# Altium footprint library SOD-323.PcbLib: 1 footprints
Each footprint in its own frame and in the unit in brackets; x right, y up, seen from the top. Pads: shape width x height; smd on the part's side, far side on the other; paste and mask are expansions set on the pad; w line width, h text height; cw(c..) or ccw(c..) is an arc to the next point about the centre after c.
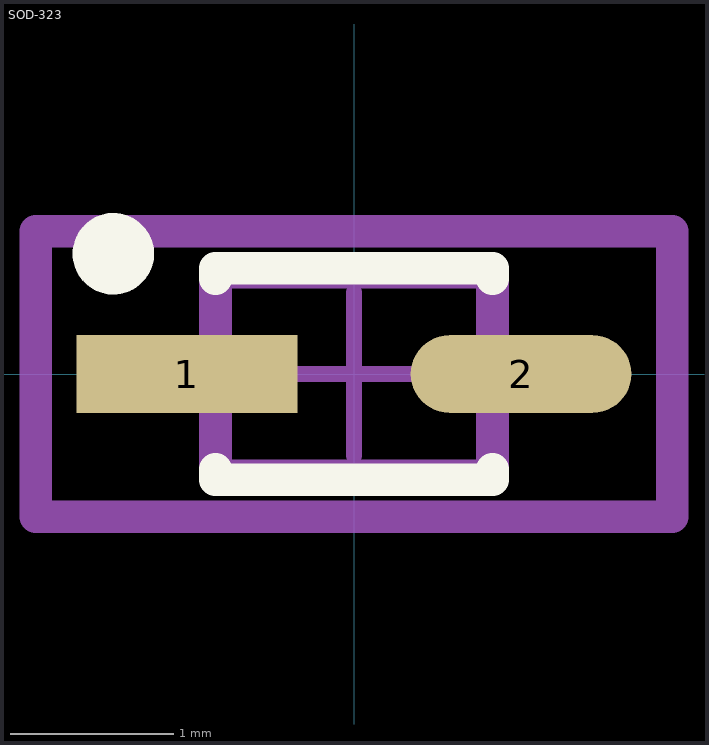
[diagram p0: the footprint, top view; thin cyan lines are the x and y axes]

## SOD-323 [mm]
pads (2):
  rect 1.355x0.476 smd paste+0 mask+0: 1(-1.026,0)
  rrect100% 1.355x0.476 smd paste+0 mask+0: 2(1.026,0)
Top Overlay:
  circle w0.25: c-1.477,0.738 r0.125
  lines w0.2: -0.85,-0.585 -0.85,-0.65 0.85,-0.65 0.85,-0.585 ; -0.85,0.585 -0.85,0.65 0.85,0.65 0.85,0.585
Mechanical 5:
  lines w0.2: -1.953,-0.875 1.953,-0.875 1.953,0.875 -1.953,0.875 -1.953,-0.875
  text ".Designator" at 0,0.188 h1
Mechanical 13:
  lines w0.2: -0.85,-0.625 0.85,-0.625 0.85,0.625 -0.85,0.625 -0.85,-0.625
Mechanical 15:
  lines w0.2: -1.953,-0.875 1.953,-0.875 1.953,0.875 -1.953,0.875 -1.953,-0.875
Mechanical 16:
  lines w0.1: -0.5,0 0.5,0 ; 0,-0.5 0,0.5
3D body "Diode_MCC_RB500V-40-TP_eec.STEP": height 0.25, standoff 0, extent -1.953,-0.875 1.953,0.875